# Altium footprint library SCE CSAB0420.PcbLib: 1 footprints
Each footprint in its own frame and in the unit in brackets; x right, y up, seen from the top. Pads: shape width x height; smd on the part's side, far side on the other; paste and mask are expansions set on the pad; w line width, h text height; cw(c..) or ccw(c..) is an arc to the next point about the centre after c.
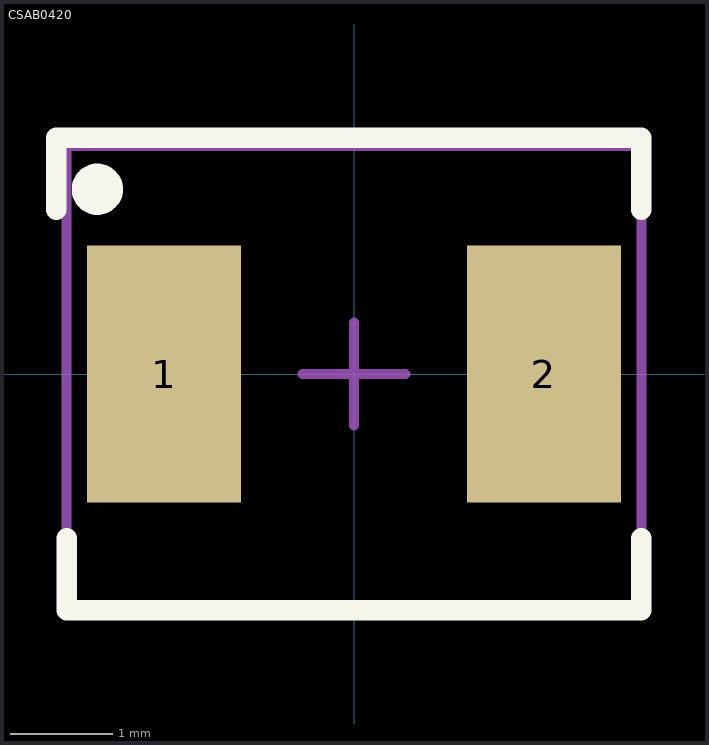
[diagram p0: the footprint, top view; thin cyan lines are the x and y axes]

## CSAB0420 [mm] "Molding Power Choke CSAB0420 Series"
height 2
pads (2):
  rect 1.5x2.5 smd: 1(-1.85,0) 2(1.85,0)
Top Overlay:
  circle w0.25: c-2.5,1.8 r0.125
  lines w0.2: -2.9,1.6 -2.9,2.3 2.8,2.3 2.8,1.6 ; -2.8,-1.6 -2.8,-2.3 2.8,-2.3 2.8,-1.6
Top Component Center:
  lines w0.1: -0.5,0 0.5,0 ; 0,-0.5 0,0.5
Top Courtyard:
  lines w0.05: -2.8,-2.25 -2.8,2.2 2.8,2.2 2.8,-2.25 -2.8,-2.25
Top Assembly:
  lines w0.1: -2.8,-2.3 2.8,-2.3 2.8,2.3 -2.8,2.3 -2.8,-2.3
3D body "CSAB0420-2R2M.STEP": height 2, standoff 0, extent -2.2,-2.1 2.2,2.1